# EAGLE library part ED555/06 (library con-ost)
HEADER
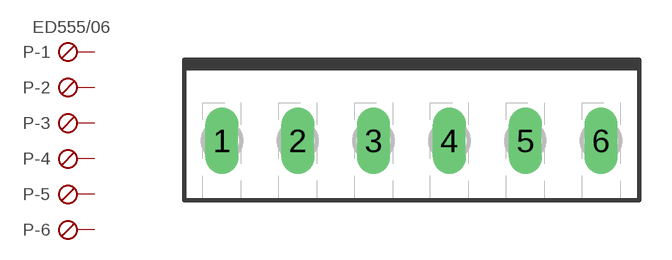
[diagram p18: symbol with the pads of ED555/06; footprint ED555/06]

Designator prefix P; gates -1=KLV-1 -2=KL-1 -3=KL-1 -4=KL-1 -5=KL-1 -6=KL-1

## ED555/06  [ED555/06]
1  -1:P  pas
2  -2:P  pas
3  -3:P  pas
4  -4:P  pas
5  -5:P  pas
6  -6:P  pas

## Footprint ED555/06 (pad centres in mm)
SCREW TERMINAL 3.5mm
drill 1.016 long: 1 -8.75,0; 2 -5.25,0; 3 -1.75,0; 4 1.75,0; 5 5.25,0; 6 8.75,0